# Altium schematic symbol library Connectors SDMicro.SchLib: 1 symbol
Pins are listed as number, name and electrical type; pins without a type are passive.

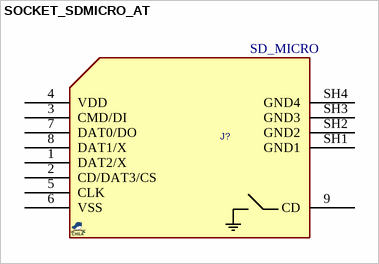
[diagram p0: symbol SOCKET_SDMICRO_AT]

## SOCKET_SDMICRO_AT
designator J?, comment SD_MICRO
SD MICRO exist in Iran, Attend 112J-TDAR-R01; MANF: Attend; MANF_P#: 112J-TDAR-R01; VALUE: SD_MICRO
footprint SDMICRO_AT (SDMICRO exist on Iran, Attend 112J-TDAR-R01)
pins: 1 DAT2/X, 2 CD/DAT3/CS, 3 CMD/DI, 4 VDD, 5 CLK, 6 VSS, 7 DAT0/DO, 8 DAT1/X, 9 CD, SH1 GND1, SH2 GND2, SH3 GND3, SH4 GND4